# Altium footprint library 1206.PcbLib: 1 footprints
Each footprint in its own frame and in the unit in brackets; x right, y up, seen from the top. Pads: shape width x height; smd on the part's side, far side on the other; paste and mask are expansions set on the pad; w line width, h text height; cw(c..) or ccw(c..) is an arc to the next point about the centre after c.
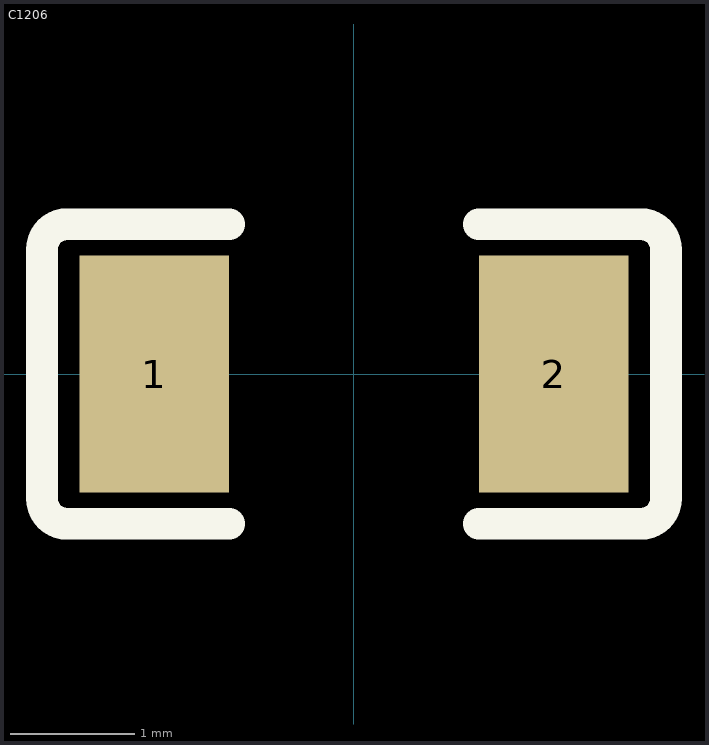
[diagram p0: the footprint, top view; thin cyan lines are the x and y axes]

## C1206 [mm]
pads (2):
  rect 1.2x1.9 smd: 1(-1.6,0) 2(1.6,0)
Top Overlay:
  lines w0.254: -1,-1.2 -2.2,-1.2 -2.3,-1.2 cw(c-2.3,-1) -2.5,-1 -2.5,1 cw(c-2.3,1) -2.3,1.2 -2.2,1.2 -1,1.2 ; 1,-1.2 2.2,-1.2 2.3,-1.2 ccw(c2.3,-1) 2.5,-1 2.5,1 ccw(c2.3,1) 2.3,1.2 2.2,1.2 1,1.2